# EAGLE library part CYCLONEVFPGA484 (library cyclonev_f484)
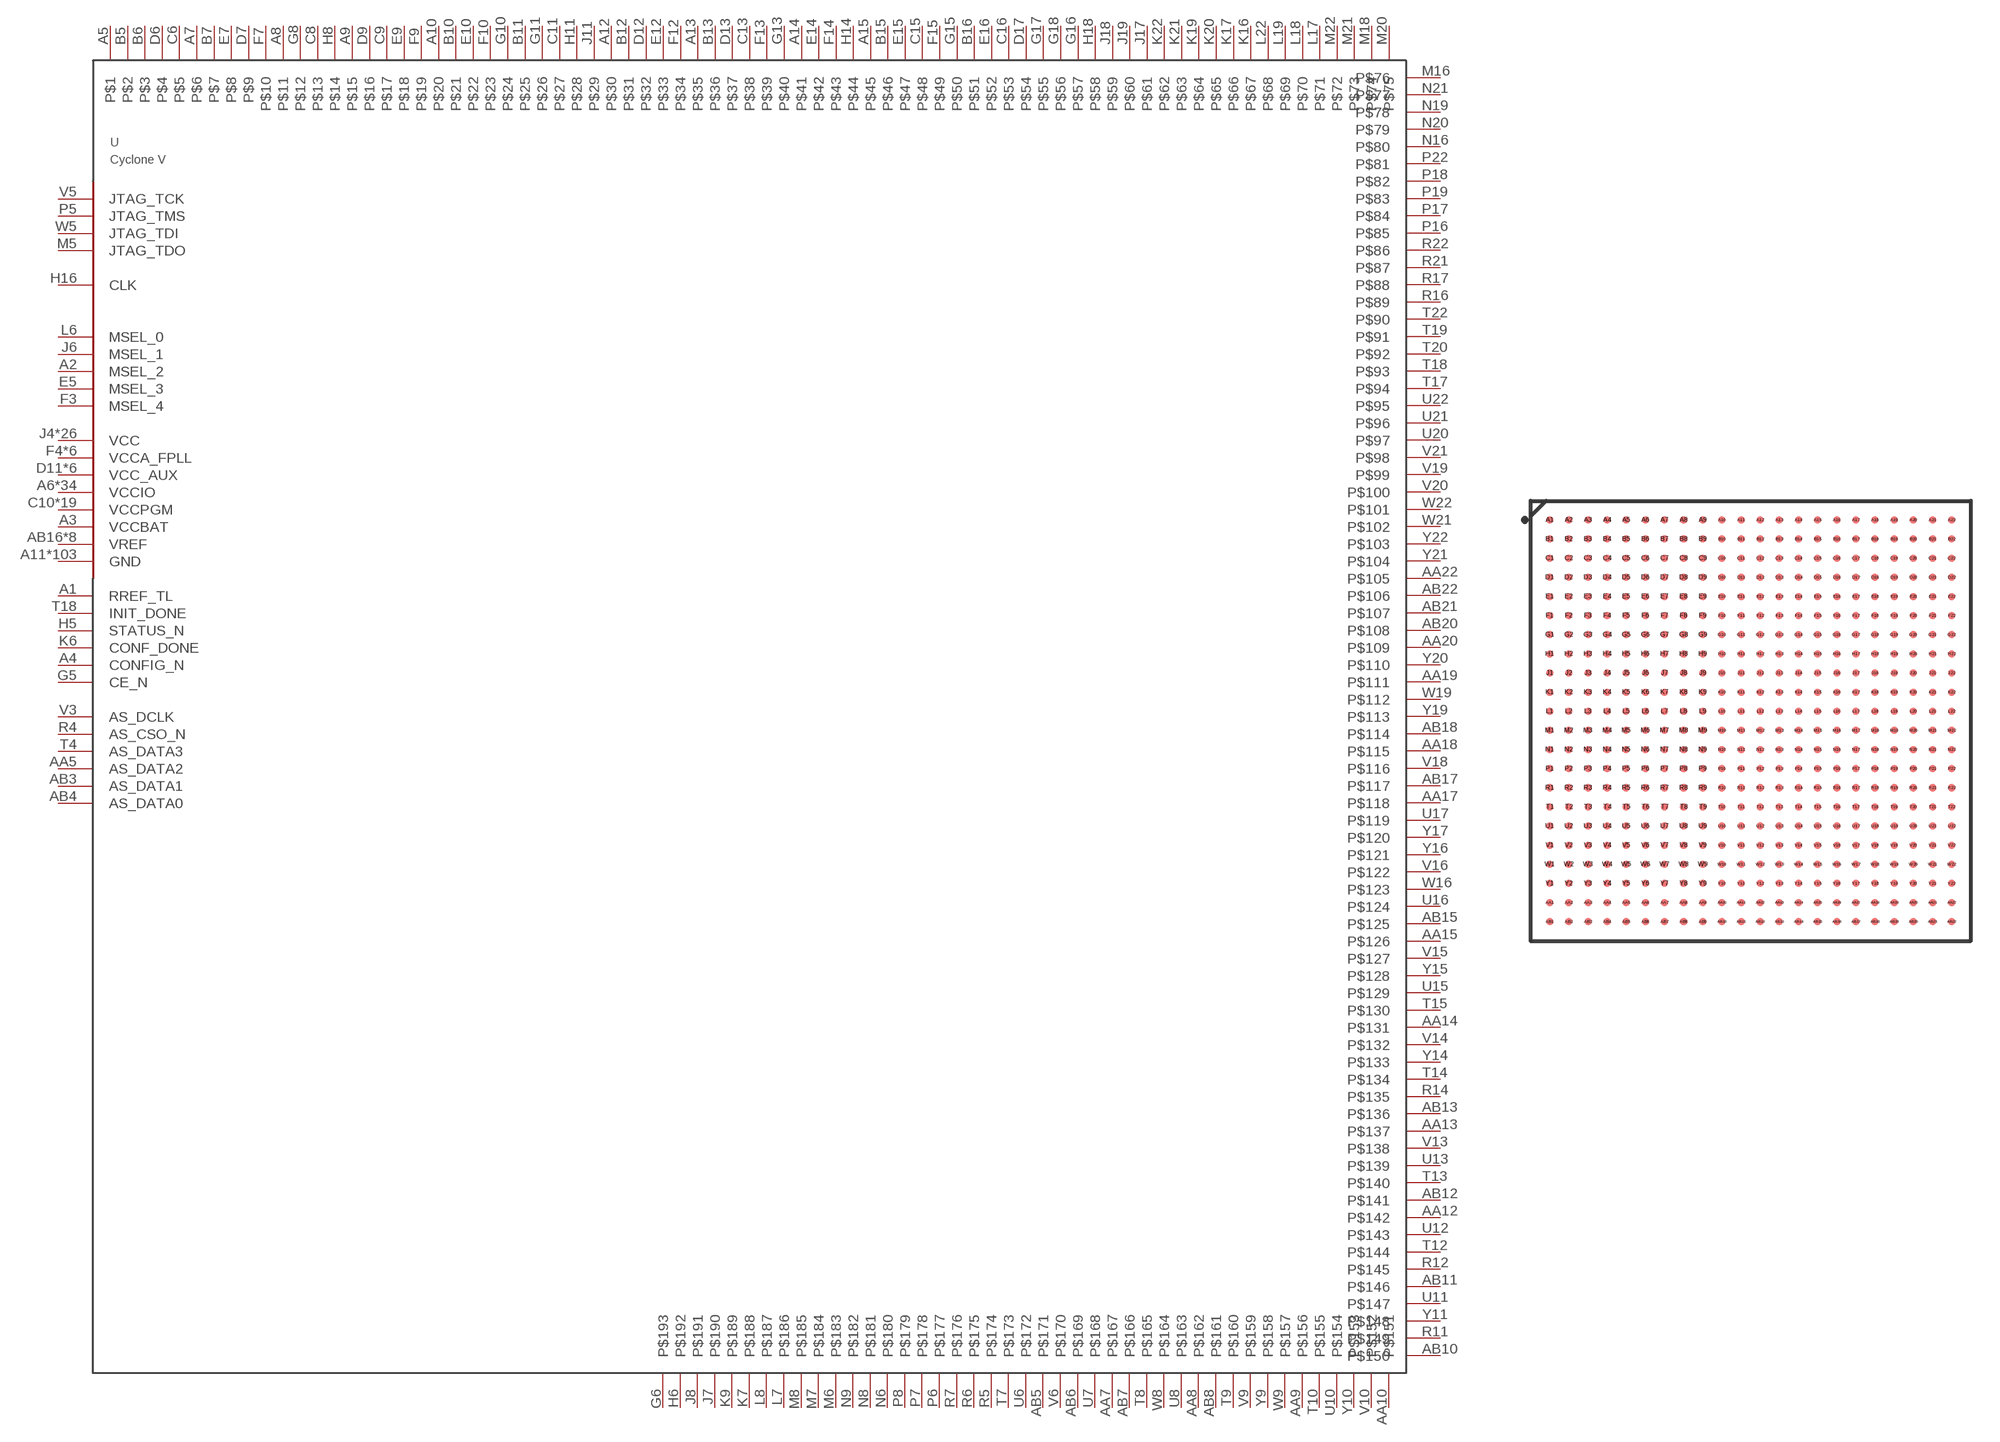
[diagram p0: symbol with the pads of CYCLONEVF484V2; footprint CYCLONEVF484V2]

Designator prefix -

## CYCLONEVFPGA484SMALLPINS  [CYCLONEVF484V2]
A1  RREF_TL  in
A2  MSEL_2  in
A3  VCCBAT  pwr
A4  CONFIG_N  in
A5  P$1
A6  VCCIO  pwr
A7  P$6
A8  P$11
A9  P$15
A10  P$20
A11  GND  pwr
A12  P$30
A13  P$35
A14  P$41
A15  P$45
A16  VCCIO  pwr
A21  GND  pwr
AA3  GND  pwr
AA4  GND  pwr
AA5  AS_DATA2
AA6  GND  pwr
AA7  P$167
AA8  P$162
AA9  P$156
AA10  P$151
AA11  GND  pwr
AA12  P$142
AA13  P$137
AA14  P$131
AA15  P$126
AA16  VCCIO  pwr
AA17  P$118
AA18  P$115
AA19  P$111
AA20  P$109
AA21  VCCIO  pwr
AA22  P$105
AB1  GND  pwr
AB2  GND  pwr
AB3  AS_DATA1
AB4  AS_DATA0
AB5  P$171
AB6  P$169
AB7  P$166
AB8  P$161
AB9  GND  pwr
AB10  P$150
AB11  P$146
AB12  P$141
AB13  P$136
AB14  GND  pwr
AB15  P$125
AB16  VREF  pwr
AB17  P$117
AB18  P$114
AB19  GND  pwr
AB20  P$108
AB21  P$107
AB22  P$106
B1  GND  pwr
B2  GND  pwr
B5  P$2
B6  P$3
B7  P$7
B8  VREF  pwr
B9  GND  pwr
B10  P$21
B11  P$25
B12  P$31
B13  P$36
B14  GND  pwr
B15  P$46
B16  P$51
B19  VCCIO  pwr
C3  GND  pwr
C4  GND  pwr
C5  GND  pwr
C6  P$5
C7  VCCIO  pwr
C8  P$13
C9  P$17
C10  VCCPGM  pwr
C11  P$27
C12  VCCIO  pwr
C13  P$38
C14  VREF  pwr
C15  P$48
C16  P$53
C17  GND  pwr
C22  VCCIO  pwr
D1  GND  pwr
D2  GND  pwr
D4  VCCIO  pwr
D5  GND  pwr
D6  P$4
D7  P$9
D8  VCCPGM  pwr
D9  P$16
D10  GND  pwr
D11  VCC_AUX  pwr
D12  P$32
D13  P$37
D14  VCCPGM  pwr
D15  VCCIO  pwr
D16  VCCPGM  pwr
D17  P$54
D18  VCC_AUX  pwr
D20  GND  pwr
E1  VCCPGM  pwr
E3  GND  pwr
E4  GND  pwr
E5  MSEL_3  in
E6  VCC_AUX  pwr
E7  P$8
E8  VCCIO  pwr
E9  P$18
E10  P$22
E11  VCCPGM  pwr
E12  P$33
E13  GND  pwr
E14  P$42
E15  P$47
E16  P$52
E18  VCCIO  pwr
F1  GND  pwr
F2  GND  pwr
F3  MSEL_4  in
F4  VCCA_FPLL  pwr
F5  GND  pwr
F6  GND  pwr
F7  P$10
F8  VCCPGM  pwr
F9  P$19
F10  P$23
F11  VCCIO  pwr
F12  P$34
F13  P$39
F14  P$43
F15  P$49
F16  GND  pwr
F17  GND  pwr
F21  VCCIO  pwr
G3  GND  pwr
G4  GND  pwr
G5  CE_N  in
G6  P$193
G7  VCCIO  pwr
G8  P$12
G9  GND  pwr
G10  P$24
G11  P$26
G13  P$40
G14  VCCIO  pwr
G15  P$50
G16  P$57
G17  P$55
G18  P$56
G19  GND  pwr
H1  GND  pwr
H2  GND  pwr
H3  GND  pwr
H4  GND  pwr
H5  STATUS_N
H6  P$192
H7  GND  pwr
H8  P$14
H11  P$28
H12  GND  pwr
H14  P$44
H15  GND  pwr
H16  CLK  in
H17  VCCIO  pwr
H18  P$58
H19  VCCA_FPLL  pwr
H22  GND  pwr
J1  VCCIO  pwr
J2  VCCPGM  pwr
J3  GND  pwr
J4  VCC  pwr
J5  GND  pwr
J6  MSEL_1  in
J7  P$190
J8  P$191
J10  VCC  pwr
J11  P$29
J12  VCC  pwr
J14  VCC  pwr
J15  GND  pwr
J16  VCC  pwr
J17  P$61
J18  P$59
J19  P$60
J20  GND  pwr
K1  GND  pwr
K2  GND  pwr
K3  VCC  pwr
K4  GND  pwr
K5  VCC  pwr
K6  CONF_DONE
K7  P$188
K8  GND  pwr
K9  P$189
K10  GND  pwr
K11  VCC  pwr
K12  GND  pwr
K13  VCC  pwr
K14  GND  pwr
K15  VCC  pwr
K16  P$67
K17  P$66
K18  VCCIO  pwr
K19  P$64
K20  P$65
K21  P$63
K22  P$62
L3  GND  pwr
L4  VCC  pwr
L5  GND  pwr
L6  MSEL_0  in
L7  P$186
L8  P$187
L10  VCC  pwr
L11  GND  pwr
L12  VCC  pwr
L13  GND  pwr
L14  VCC  pwr
L15  GND  pwr
L16  VCC  pwr
L17  P$71
L18  P$70
L19  P$69
L20  VREF  pwr
L21  GND  pwr
L22  P$68
M1  GND  pwr
M2  GND  pwr
M3  VCCA_FPLL  pwr
M4  GND  pwr
M5  JTAG_TDO  out
M6  P$183
M7  P$184
M8  P$185
M10  GND  pwr
M11  VCC  pwr
M12  GND  pwr
M13  VCC  pwr
M14  GND  pwr
M15  VCC  pwr
M16  P$76
M17  VCCPGM  pwr
M18  P$74
M19  VCCIO  pwr
M20  P$75
M21  P$73
M22  P$72
N3  GND  pwr
N4  VCC  pwr
N5  GND  pwr
N6  P$180
N7  GND  pwr
N8  P$181
N9  P$182
N10  VCC  pwr
N11  GND  pwr
N12  VCC  pwr
N13  GND  pwr
N14  VCC  pwr
N15  GND  pwr
N16  P$80
N17  GND  pwr
N18  VCCPGM  pwr
N19  P$78
N20  P$79
N21  P$77
N22  GND  pwr
P1  GND  pwr
P2  GND  pwr
P3  VCC  pwr
P4  GND  pwr
P5  JTAG_TMS  in
P6  P$177
P7  P$178
P8  P$179
P10  GND  pwr
P11  VCC  pwr
P13  VCC  pwr
P15  VCC  pwr
P16  P$85
P17  P$84
P18  P$82
P19  P$83
P20  VCCIO  pwr
P21  VCCPGM  pwr
P22  P$81
R1  VCCIO  pwr
R2  VCCPGM  pwr
R3  GND  pwr
R4  AS_CSO_N  out
R5  P$174
R6  P$175
R7  P$176
R8  VCCIO  pwr
R11  P$149
R12  P$145
R13  GND  pwr
R14  P$135
R16  P$89
R17  P$88
R18  VCCIO  pwr
R19  VCCPGM  pwr
R20  VREF  pwr
R21  P$87
R22  P$86
T1  GND  pwr
T2  GND  pwr
T3  VCCA_FPLL  pwr
T4  AS_DATA3
T5  VCCA_FPLL  pwr
T6  VCCIO  pwr
T7  P$173
T8  P$165
T9  P$160
T10  P$155
T11  VCCIO  pwr
T12  P$144
T13  P$140
T14  P$134
T15  P$130
T16  GND  pwr
T17  P$94
T18  INIT_DONE  out
T18  P$93
T19  P$91
T20  P$92
T21  GND  pwr
T22  P$90
U3  GND  pwr
U4  GND  pwr
U5  GND  pwr
U6  P$172
U7  P$168
U8  P$163
U9  GND  pwr
U10  P$154
U11  P$147
U12  P$143
U13  P$139
U14  VCCIO  pwr
U15  P$129
U16  P$124
U17  P$119
U18  VCCA_FPLL  pwr
U19  VCCIO  pwr
U20  P$97
U21  P$96
U22  P$95
V1  GND  pwr
V2  GND  pwr
V3  AS_DCLK  out
V4  GND  pwr
V5  JTAG_TCK  in
V6  P$170
V7  GND  pwr
V8  VCCPGM  pwr
V9  P$159
V10  P$152
V12  GND  pwr
V13  P$138
V14  P$132
V15  P$127
V16  P$122
V17  GND  pwr
V18  P$116
V19  P$99
V20  P$100
V21  P$98
V22  GND  pwr
W1  VREF  pwr
W3  GND  pwr
W4  GND  pwr
W5  JTAG_TDI  in
W6  VCCPGM  pwr
W7  VCC_AUX  pwr
W8  P$164
W9  P$157
W10  VCCIO  pwr
W11  VCCPGM  pwr
W12  VCCPGM  pwr
W13  VCC_AUX  pwr
W14  VCCPGM  pwr
W15  VCCIO  pwr
W16  P$123
W17  VCCPGM  pwr
W18  VCC_AUX  pwr
W19  P$112
W20  VCCIO  pwr
W21  P$102
W22  P$101
Y1  GND  pwr
Y2  GND  pwr
Y4  VCCIO  pwr
Y5  GND  pwr
Y7  VREF  pwr
Y8  VCCIO  pwr
Y9  P$158
Y10  P$153
Y11  P$148
Y12  VREF  pwr
Y13  VCCIO  pwr
Y14  P$133
Y15  P$128
Y16  P$121
Y17  P$120
Y18  GND  pwr
Y19  P$113
Y20  P$110
Y21  P$104
Y22  P$103

## Footprint CYCLONEVF484V2 (pad centres in mm)
smd 0.38 x 0.38: A1 -10.5,10.5; A2 -9.5,10.5; A3 -8.5,10.5; A4 -7.5,10.5; A5 -6.5,10.5; A6 -5.5,10.5; A7 -4.5,10.5; A8 -3.5,10.5; A9 -2.5,10.5; A10 -1.5,10.5; A11 -0.5,10.5; A12 0.5,10.5; A13 1.5,10.5; A14 2.5,10.5; A15 3.5,10.5; A16 4.5,10.5; A17 5.5,10.5; A18 6.5,10.5; A19 7.5,10.5; A20 8.5,10.5; A21 9.5,10.5; A22 10.5,10.5; AA1 -10.5,-9.5; AA2 -9.5,-9.5; AA3 -8.5,-9.5; AA4 -7.5,-9.5; AA5 -6.5,-9.5; AA6 -5.5,-9.5; AA7 -4.5,-9.5; AA8 -3.5,-9.5; AA9 -2.5,-9.5; AA10 -1.5,-9.5; AA11 -0.5,-9.5; AA12 0.5,-9.5; AA13 1.5,-9.5; AA14 2.5,-9.5; AA15 3.5,-9.5; AA16 4.5,-9.5; AA17 5.5,-9.5; AA18 6.5,-9.5; AA19 7.5,-9.5; AA20 8.5,-9.5; AA21 9.5,-9.5; AA22 10.5,-9.5; AB1 -10.5,-10.5; AB2 -9.5,-10.5; AB3 -8.5,-10.5; AB4 -7.5,-10.5; AB5 -6.5,-10.5; AB6 -5.5,-10.5; AB7 -4.5,-10.5; AB8 -3.5,-10.5; AB9 -2.5,-10.5; AB10 -1.5,-10.5; AB11 -0.5,-10.5; AB12 0.5,-10.5; AB13 1.5,-10.5; AB14 2.5,-10.5; AB15 3.5,-10.5; AB16 4.5,-10.5; AB17 5.5,-10.5; AB18 6.5,-10.5; AB19 7.5,-10.5; AB20 8.5,-10.5; AB21 9.5,-10.5; AB22 10.5,-10.5; B1 -10.5,9.5; B2 -9.5,9.5; B3 -8.5,9.5; B4 -7.5,9.5; B5 -6.5,9.5; B6 -5.5,9.5; B7 -4.5,9.5; B8 -3.5,9.5; B9 -2.5,9.5; B10 -1.5,9.5; B11 -0.5,9.5; B12 0.5,9.5; B13 1.5,9.5; B14 2.5,9.5; B15 3.5,9.5; B16 4.5,9.5; B17 5.5,9.5; B18 6.5,9.5; B19 7.5,9.5; B20 8.5,9.5; B21 9.5,9.5; B22 10.5,9.5; C1 -10.5,8.5; C2 -9.5,8.5; C3 -8.5,8.5; C4 -7.5,8.5; C5 -6.5,8.5; C6 -5.5,8.5; C7 -4.5,8.5; C8 -3.5,8.5; C9 -2.5,8.5; C10 -1.5,8.5; C11 -0.5,8.5; C12 0.5,8.5; C13 1.5,8.5; C14 2.5,8.5; C15 3.5,8.5; C16 4.5,8.5; C17 5.5,8.5; C18 6.5,8.5; C19 7.5,8.5; C20 8.5,8.5; C21 9.5,8.5; C22 10.5,8.5; D1 -10.5,7.5; D2 -9.5,7.5; D3 -8.5,7.5; D4 -7.5,7.5; D5 -6.5,7.5; D6 -5.5,7.5; D7 -4.5,7.5; D8 -3.5,7.5; D9 -2.5,7.5; D10 -1.5,7.5; D11 -0.5,7.5; D12 0.5,7.5; D13 1.5,7.5; D14 2.5,7.5; D15 3.5,7.5; D16 4.5,7.5; D17 5.5,7.5; D18 6.5,7.5; D19 7.5,7.5; D20 8.5,7.5; D21 9.5,7.5; D22 10.5,7.5; E1 -10.5,6.5; E2 -9.5,6.5; E3 -8.5,6.5; E4 -7.5,6.5; E5 -6.5,6.5; E6 -5.5,6.5; E7 -4.5,6.5; E8 -3.5,6.5; E9 -2.5,6.5; E10 -1.5,6.5; E11 -0.5,6.5; E12 0.5,6.5; E13 1.5,6.5; E14 2.5,6.5; E15 3.5,6.5; E16 4.5,6.5; E17 5.5,6.5; E18 6.5,6.5; E19 7.5,6.5; E20 8.5,6.5; E21 9.5,6.5; E22 10.5,6.5; F1 -10.5,5.5; F2 -9.5,5.5; F3 -8.5,5.5; F4 -7.5,5.5; F5 -6.5,5.5; F6 -5.5,5.5; F7 -4.5,5.5; F8 -3.5,5.5; F9 -2.5,5.5; F10 -1.5,5.5; F11 -0.5,5.5; F12 0.5,5.5; F13 1.5,5.5; F14 2.5,5.5; F15 3.5,5.5; F16 4.5,5.5; F17 5.5,5.5; F18 6.5,5.5; F19 7.5,5.5; F20 8.5,5.5; F21 9.5,5.5; F22 10.5,5.5; G1 -10.5,4.5; G2 -9.5,4.5; G3 -8.5,4.5; G4 -7.5,4.5; G5 -6.5,4.5; G6 -5.5,4.5; G7 -4.5,4.5; G8 -3.5,4.5; G9 -2.5,4.5; G10 -1.5,4.5; G11 -0.5,4.5; G12 0.5,4.5; G13 1.5,4.5; G14 2.5,4.5; G15 3.5,4.5; G16 4.5,4.5; G17 5.5,4.5; G18 6.5,4.5; G19 7.5,4.5; G20 8.5,4.5; G21 9.5,4.5; G22 10.5,4.5; H1 -10.5,3.5; H2 -9.5,3.5; H3 -8.5,3.5; H4 -7.5,3.5; H5 -6.5,3.5; H6 -5.5,3.5; H7 -4.5,3.5; H8 -3.5,3.5; H9 -2.5,3.5; H10 -1.5,3.5; H11 -0.5,3.5; H12 0.5,3.5; H13 1.5,3.5; H14 2.5,3.5; H15 3.5,3.5; H16 4.5,3.5; H17 5.5,3.5; H18 6.5,3.5; H19 7.5,3.5; H20 8.5,3.5; H21 9.5,3.5; H22 10.5,3.5; J1 -10.5,2.5; J2 -9.5,2.5; J3 -8.5,2.5; J4 -7.5,2.5; J5 -6.5,2.5; J6 -5.5,2.5; J7 -4.5,2.5; J8 -3.5,2.5; J9 -2.5,2.5; J10 -1.5,2.5; J11 -0.5,2.5; J12 0.5,2.5; J13 1.5,2.5; J14 2.5,2.5; J15 3.5,2.5; J16 4.5,2.5; J17 5.5,2.5; J18 6.5,2.5; J19 7.5,2.5; J20 8.5,2.5; J21 9.5,2.5; J22 10.5,2.5; K1 -10.5,1.5; K2 -9.5,1.5; K3 -8.5,1.5; K4 -7.5,1.5; K5 -6.5,1.5; K6 -5.5,1.5; K7 -4.5,1.5; K8 -3.5,1.5; K9 -2.5,1.5; K10 -1.5,1.5; K11 -0.5,1.5; K12 0.5,1.5; K13 1.5,1.5; K14 2.5,1.5; K15 3.5,1.5; K16 4.5,1.5; K17 5.5,1.5; K18 6.5,1.5; K19 7.5,1.5; K20 8.5,1.5; K21 9.5,1.5; K22 10.5,1.5; L1 -10.5,0.5; L2 -9.5,0.5; L3 -8.5,0.5; L4 -7.5,0.5; L5 -6.5,0.5; L6 -5.5,0.5; L7 -4.5,0.5; L8 -3.5,0.5; L9 -2.5,0.5; L10 -1.5,0.5; L11 -0.5,0.5; L12 0.5,0.5; L13 1.5,0.5; L14 2.5,0.5; L15 3.5,0.5; L16 4.5,0.5; L17 5.5,0.5; L18 6.5,0.5; L19 7.5,0.5; L20 8.5,0.5; L21 9.5,0.5; L22 10.5,0.5; M1 -10.5,-0.5; M2 -9.5,-0.5; M3 -8.5,-0.5; M4 -7.5,-0.5; M5 -6.5,-0.5; M6 -5.5,-0.5; M7 -4.5,-0.5; M8 -3.5,-0.5; M9 -2.5,-0.5; M10 -1.5,-0.5; M11 -0.5,-0.5; M12 0.5,-0.5; M13 1.5,-0.5; M14 2.5,-0.5; M15 3.5,-0.5; M16 4.5,-0.5; M17 5.5,-0.5; M18 6.5,-0.5; M19 7.5,-0.5; M20 8.5,-0.5; M21 9.5,-0.5; M22 10.5,-0.5; N1 -10.5,-1.5; N2 -9.5,-1.5; N3 -8.5,-1.5; N4 -7.5,-1.5; N5 -6.5,-1.5; N6 -5.5,-1.5; N7 -4.5,-1.5; N8 -3.5,-1.5; N9 -2.5,-1.5; N10 -1.5,-1.5; N11 -0.5,-1.5; N12 0.5,-1.5; N13 1.5,-1.5; N14 2.5,-1.5; N15 3.5,-1.5; N16 4.5,-1.5; N17 5.5,-1.5; N18 6.5,-1.5; N19 7.5,-1.5; N20 8.5,-1.5; N21 9.5,-1.5; N22 10.5,-1.5; P1 -10.5,-2.5; P2 -9.5,-2.5; P3 -8.5,-2.5; P4 -7.5,-2.5; P5 -6.5,-2.5; P6 -5.5,-2.5; P7 -4.5,-2.5; P8 -3.5,-2.5; P9 -2.5,-2.5; P10 -1.5,-2.5; P11 -0.5,-2.5; P12 0.5,-2.5; P13 1.5,-2.5; P14 2.5,-2.5; P15 3.5,-2.5; P16 4.5,-2.5; P17 5.5,-2.5; P18 6.5,-2.5; P19 7.5,-2.5; P20 8.5,-2.5; P21 9.5,-2.5; P22 10.5,-2.5; R1 -10.5,-3.5; R2 -9.5,-3.5; R3 -8.5,-3.5; R4 -7.5,-3.5; R5 -6.5,-3.5; R6 -5.5,-3.5; R7 -4.5,-3.5; R8 -3.5,-3.5; R9 -2.5,-3.5; R10 -1.5,-3.5; R11 -0.5,-3.5; R12 0.5,-3.5; R13 1.5,-3.5; R14 2.5,-3.5; R15 3.5,-3.5; R16 4.5,-3.5; R17 5.5,-3.5; R18 6.5,-3.5; R19 7.5,-3.5; R20 8.5,-3.5; R21 9.5,-3.5; R22 10.5,-3.5; T1 -10.5,-4.5; T2 -9.5,-4.5; T3 -8.5,-4.5; T4 -7.5,-4.5; T5 -6.5,-4.5; T6 -5.5,-4.5; T7 -4.5,-4.5; T8 -3.5,-4.5; T9 -2.5,-4.5; T10 -1.5,-4.5; T11 -0.5,-4.5; T12 0.5,-4.5; T13 1.5,-4.5; T14 2.5,-4.5; T15 3.5,-4.5; T16 4.5,-4.5; T17 5.5,-4.5; T18 6.5,-4.5; T19 7.5,-4.5; T20 8.5,-4.5; T21 9.5,-4.5; T22 10.5,-4.5; U1 -10.5,-5.5; U2 -9.5,-5.5; U3 -8.5,-5.5; U4 -7.5,-5.5; U5 -6.5,-5.5; U6 -5.5,-5.5; U7 -4.5,-5.5; U8 -3.5,-5.5; U9 -2.5,-5.5; U10 -1.5,-5.5; U11 -0.5,-5.5; U12 0.5,-5.5; U13 1.5,-5.5; U14 2.5,-5.5; U15 3.5,-5.5; U16 4.5,-5.5; U17 5.5,-5.5; U18 6.5,-5.5; U19 7.5,-5.5; U20 8.5,-5.5; U21 9.5,-5.5; U22 10.5,-5.5; V1 -10.5,-6.5; V2 -9.5,-6.5; V3 -8.5,-6.5; V4 -7.5,-6.5; V5 -6.5,-6.5; V6 -5.5,-6.5; V7 -4.5,-6.5; V8 -3.5,-6.5; V9 -2.5,-6.5; V10 -1.5,-6.5; V11 -0.5,-6.5; V12 0.5,-6.5; V13 1.5,-6.5; V14 2.5,-6.5; V15 3.5,-6.5; V16 4.5,-6.5; V17 5.5,-6.5; V18 6.5,-6.5; V19 7.5,-6.5; V20 8.5,-6.5; V21 9.5,-6.5; V22 10.5,-6.5; W1 -10.5,-7.5; W2 -9.5,-7.5; W3 -8.5,-7.5; W4 -7.5,-7.5; W5 -6.5,-7.5; W6 -5.5,-7.5; W7 -4.5,-7.5; W8 -3.5,-7.5; W9 -2.5,-7.5; W10 -1.5,-7.5; W11 -0.5,-7.5; W12 0.5,-7.5; W13 1.5,-7.5; W14 2.5,-7.5; W15 3.5,-7.5; W16 4.5,-7.5; W17 5.5,-7.5; W18 6.5,-7.5; W19 7.5,-7.5; W20 8.5,-7.5; W21 9.5,-7.5; W22 10.5,-7.5; Y1 -10.5,-8.5; Y2 -9.5,-8.5; Y3 -8.5,-8.5; Y4 -7.5,-8.5; Y5 -6.5,-8.5; Y6 -5.5,-8.5; Y7 -4.5,-8.5; Y8 -3.5,-8.5; Y9 -2.5,-8.5; Y10 -1.5,-8.5; Y11 -0.5,-8.5; Y12 0.5,-8.5; Y13 1.5,-8.5; Y14 2.5,-8.5; Y15 3.5,-8.5; Y16 4.5,-8.5; Y17 5.5,-8.5; Y18 6.5,-8.5; Y19 7.5,-8.5; Y20 8.5,-8.5; Y21 9.5,-8.5; Y22 10.5,-8.5